# Altium footprint library diode.PcbLib: 5 footprints
Each footprint in its own frame and in the unit in brackets; x right, y up, seen from the top. Pads: shape width x height; smd on the part's side, far side on the other; paste and mask are expansions set on the pad; w line width, h text height; cw(c..) or ccw(c..) is an arc to the next point about the centre after c.
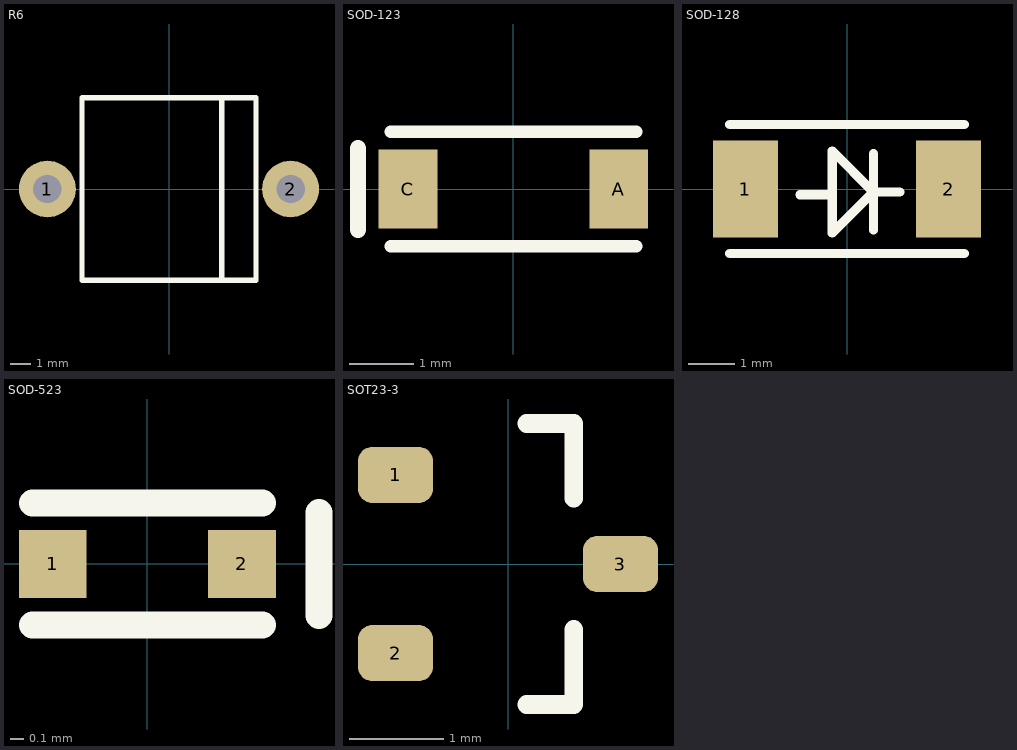
[diagram p0: the footprints below, top view; thin cyan lines are the x and y axes]

## R6 [mm]
pads (2):
  round 2.8 hole 1.4: 1(-6,0) 2(6,0)
Top Overlay:
  lines w0.254: 2.6,-4.5 2.6,4.5 ; -4.3,-4.5 4.3,-4.5 4.3,4.5 -4.3,4.5 -4.3,-4.5
3D body: height 9, standoff 0, extent -4.3,-4.5 4.3,4.5

## SOD-123 [mm]
pads (2):
  rect 0.915x1.22 smd: A(1.637,0) C(-1.637,0)
Top Overlay:
  lines w0.2: -1.905,-0.889 1.905,-0.889 ; -1.905,0.889 1.905,0.889
  lines w0.254: -2.413,-0.635 -2.413,0.635
3D body "SOD-123.stp": height 1.35, standoff 0, extent -1.932,-0.9 1.932,0.9

## SOD-128 [mm]
pads (2):
  rect 1.4x2.1 smd: 1(-2.2,0) 2(2.2,0)
Top Overlay:
  lines w0.2: -2.54,-1.397 2.54,-1.397 ; -2.54,1.397 2.54,1.397 ; -1.016,-0.127 -0.318,-0.127 ; 0.572,-0.889 0.572,0.762 ; 1.143,-0.064 0.572,-0.064 ; 0.572,-0.064 -0.318,0.826 -0.318,-0.953 0.572,-0.064
3D body "User Library-SOD-128 ST214 model.step": height 1.11, standoff 0, extent -2.6,-1.35 2.6,1.35

## SOD-523 [mm]
pads (2):
  rect 0.5x0.5 smd: 1(-0.7,0) 2(0.7,0)
Top Overlay:
  lines w0.2: -0.85,-0.45 0.85,-0.45 ; -0.85,0.45 0.85,0.45 ; 1.27,-0.381 1.27,0.381
3D body "SC-79.stp": height 0.7, standoff 0, extent -0.85,-0.45 0.85,0.45

## SOT23-3 [mm]
pads (3):
  rrect50% 0.8x0.6 smd: 1(-1.2,0.95) 2(-1.2,-0.95) 3(1.2,0)
Top Overlay:
  lines w0.2: 0.2,-1.5 0.7,-1.5 0.7,-0.7 ; 0.2,1.5 0.7,1.5 0.7,0.7
3D body "SW3dPS-sot-3p290x130ll237h100.STEP": height 1, standoff 0, extent -1.16,-1.45 1.21,1.45